# EAGLE library part USBCASTEL (library castels)
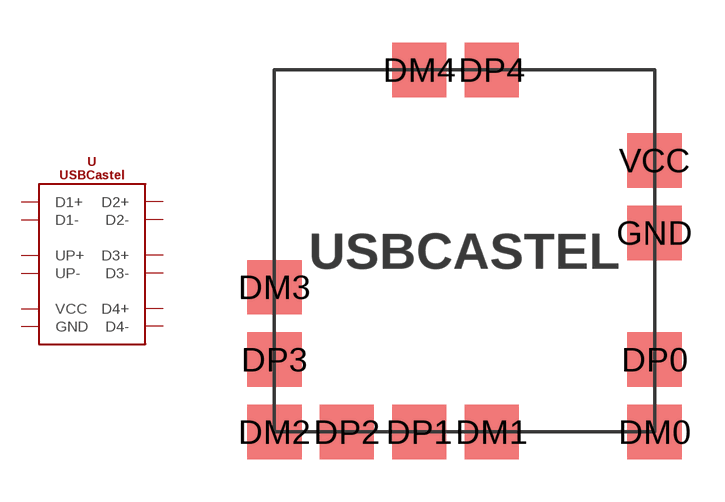
[diagram p2: symbol with the pads of USBCASTEL; footprint USBCASTEL]

Designator prefix -

## USBCASTEL  [USBCASTEL]
DM0  UP-
DM1  D1-
DM2  D2-
DM3  D3-
DM4  D4-
DP0  UP+
DP1  D1+
DP2  D2+
DP3  D3+
DP4  D4+
GND  GND
VCC  VCC

## Footprint USBCASTEL (pad centres in mm)
smd 1.905 x 1.905: DM0 6.985,-6.35; DM1 1.27,-6.35; DM2 -6.35,-6.35; DM3 -6.35,-1.27; DM4 -1.27,6.35; DP0 6.985,-3.81; DP1 -1.27,-6.35; DP2 -3.81,-6.35; DP3 -6.35,-3.81; DP4 1.27,6.35; GND 6.985,0.635; VCC 6.985,3.175